# EAGLE library part BQ24090 (library eigenebib)
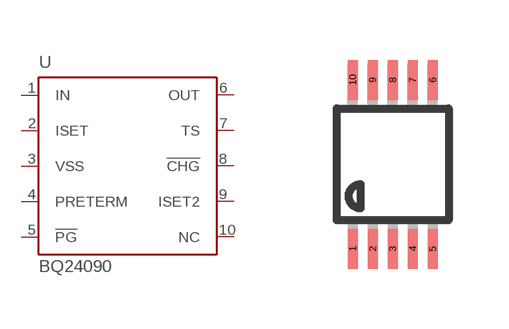
[diagram p1: symbol with the pads of MSOP10; footprint MSOP10]

Designator prefix -

## BQ24090  [MSOP10]
1  IN  in
2  ISET  in
3  VSS  pwr
4  PRETERM  in
5  !PG!  out
6  OUT  out
7  TS  in
8  !CHG!  out
9  ISET2  in
10  NC  nc

## Footprint MSOP10 (pad centres in mm)
smd 0.25 x 1: 1 -1,-2.113; 2 -0.5,-2.113; 3 0,-2.113; 4 0.5,-2.113; 5 1,-2.113; 6 1,2.113; 7 0.5,2.113; 8 0,2.113; 9 -0.5,2.113; 10 -1,2.113